# EAGLE library part TXB0104 (library 1_spektrak)
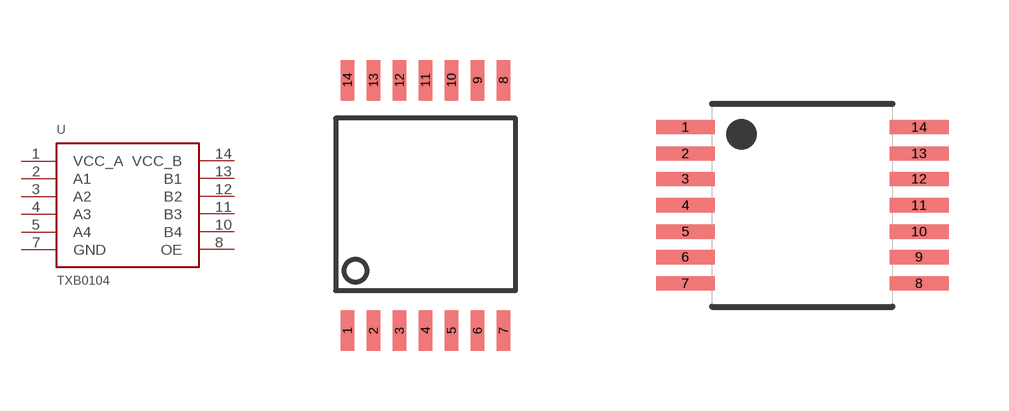
[diagram p20: symbol with the pads of TSSOP14_TRANSLATOR; footprints TSSOP14_TRANSLATOR, TSSOP14]

Designator prefix U

## TXB0104'OLD'  [TSSOP14_TRANSLATOR]
1  VCC_A  pwr
2  A1
3  A2
4  A3
5  A4
7  GND  pwr
8  OE  in
10  B4
11  B3
12  B2
13  B1
14  VCC_B  pwr

## TXB0104  [TSSOP14]
Pads as for TSSOP14_TRANSLATOR

## Footprint TSSOP14_TRANSLATOR (pad centres in mm)
smd 0.33 x 1.016: 1 -1.27,-2.54; 2 -0.62,-2.54; 3 0.03,-2.54; 4 0.68,-2.54; 5 1.33,-2.54; 6 1.98,-2.54; 7 2.63,-2.54; 8 2.63,3.726; 9 1.98,3.726; 10 1.33,3.726; 11 0.68,3.726; 12 0.03,3.726; 13 -0.62,3.726; 14 -1.27,3.726

## Footprint TSSOP14 (pad centres in mm)
smd 1.473 x 0.356: 1 -2.921,1.956; 2 -2.921,1.295; 3 -2.921,0.66; 4 -2.921,0; 5 -2.921,-0.66; 6 -2.921,-1.295; 7 -2.921,-1.956; 8 2.921,-1.956; 9 2.921,-1.295; 10 2.921,-0.66; 11 2.921,0; 12 2.921,0.66; 13 2.921,1.295; 14 2.921,1.956